# EAGLE library part JP3Q (library jumper)
JUMPER
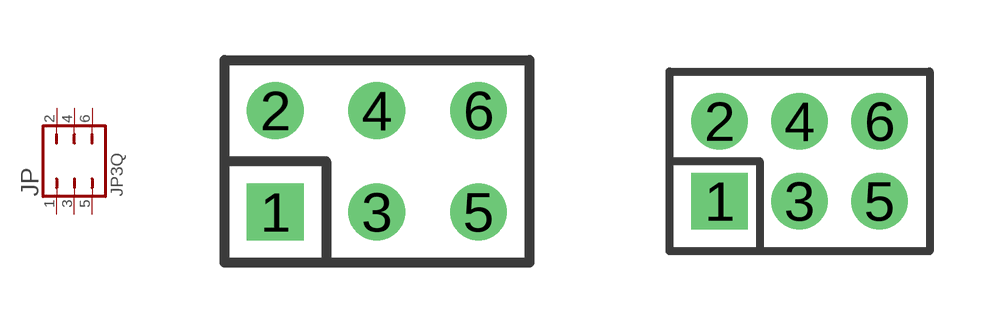
[diagram p8: symbol with the pads of JP3Q; footprints JP3Q, JP3QM]

Designator prefix JP

## JP3Q  [JP3Q]
1  1  pas
2  2  pas
3  3  pas
4  4  pas
5  5  pas
6  6  pas

## JP3QM  [JP3QM]
Pads as for JP3Q

## Footprint JP3Q (pad centres in mm)
JUMPER - 0.1" Pitch
drill 0.914 square: 1 -2.54,-1.27
drill 0.914: 2 -2.54,1.27; 3 0,-1.27; 4 0,1.27; 5 2.54,-1.27; 6 2.54,1.27

## Footprint JP3QM (pad centres in mm)
JUMPER - 2.00mm (.079") Pitch
drill 0.914 square: 1 -2,-1
drill 0.914: 2 -2,1; 3 0,-1; 4 0,1; 5 2,-1; 6 2,1